# Altium schematic symbol library DF4Conn.SchLib: 1 symbol
Pins are listed as number, name and electrical type; pins without a type are passive.

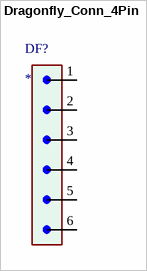
[diagram p0: symbol Dragonfly_Conn_4Pin]

## Dragonfly_Conn_4Pin
designator DF?
footprint Dragonfly_Conn_Vertical
pins: 1, 2, 3, 4, 5, 6